# Altium footprint library 底板.PcbLib: 20 footprints (part 1 of 2)
Each footprint in its own frame and in the unit in brackets; x right, y up, seen from the top. Pads: shape width x height; smd on the part's side, far side on the other; paste and mask are expansions set on the pad; w line width, h text height; cw(c..) or ccw(c..) is an arc to the next point about the centre after c.
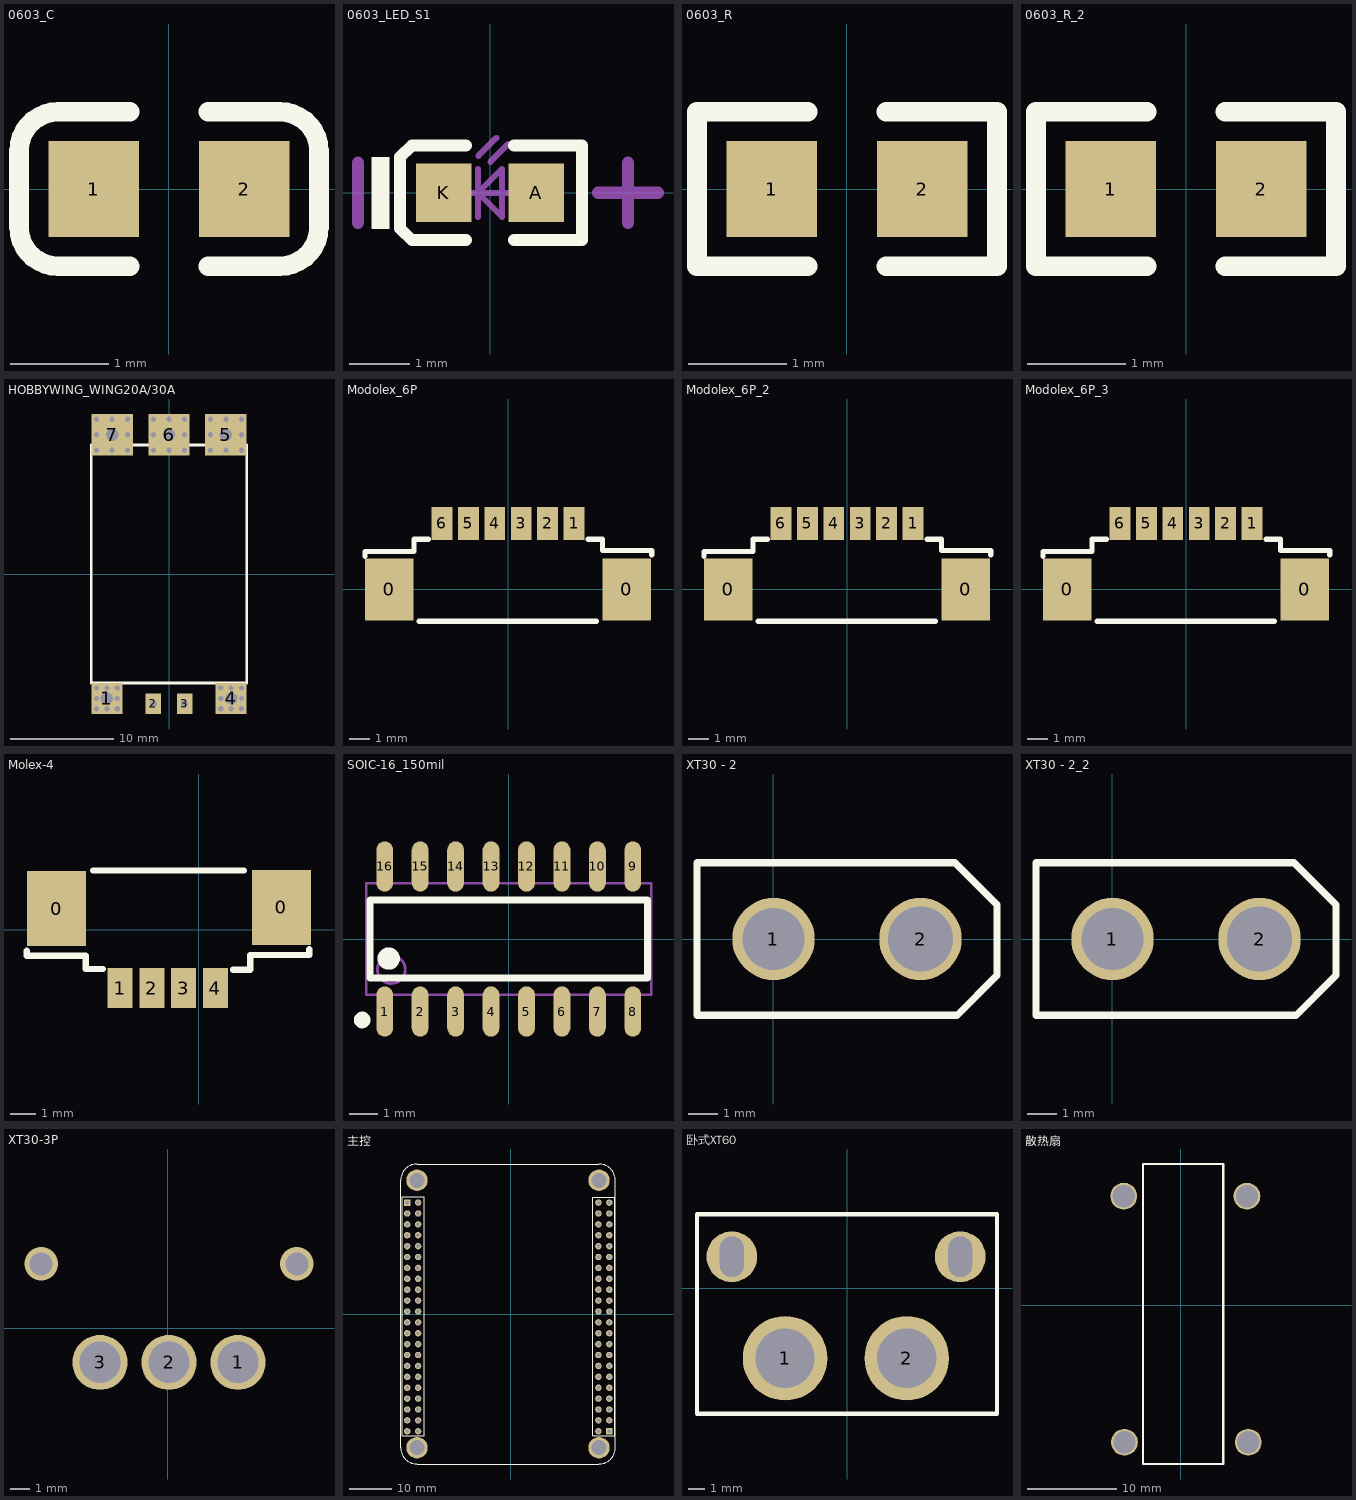
[diagram p0: the footprints below, top view; thin cyan lines are the x and y axes]

## 0603_C [mm]
pads (2):
  rect 0.93x0.98 smd: 1(-0.77,0) 2(0.77,0)
Top Overlay:
  lines w0.2: -0.4,-0.79 -1.135,-0.79 cw(c-1.135,-0.39) -1.535,-0.39 -1.535,0.39 cw(c-1.135,0.39) -1.135,0.79 -0.4,0.79 ; 0.4,-0.79 1.135,-0.79 ccw(c1.135,-0.39) 1.535,-0.39 1.535,0.39 ccw(c1.135,0.39) 1.135,0.79 0.4,0.79
3D body "User Library-0603 SMD Capacitor.STEP": height 0.3, standoff 0, extent -0.8,-0.4 0.8,0.4

## 0603_LED_S1 [mm]
pads (2):
  rect 0.93x0.98 smd: A(0.77,0) K(-0.77,0)
Top Overlay:
  rectangle: -1.975,-0.6 -1.675,0.6
  lines w0.2: -0.4,-0.79 -1.3,-0.79 -1.5,-0.597 -1.5,0.597 -1.3,0.79 -0.4,0.79 ; 0.4,-0.79 1.535,-0.79 1.535,0.79 0.4,0.79
Mechanical 13:
  lines w0.1: -0.4,0 0.4,0 ; -0.2,-0.4 -0.2,0.4 ; -0.195,0.617 0.105,0.917 ; 0.005,0.517 0.305,0.817 ; -0.2,0 0.2,0.4 0.2,-0.4 -0.2,0
Mechanical 15:
  lines w0.203: -2.2,-0.5 -2.2,0.5 ; 1.8,0 2.8,0 ; 2.3,-0.5 2.3,0.5
3D body "User Library-LED_0603_R.STEP": height 0.6, standoff 0, extent -0.8,-0.4 0.8,0.4

## 0603_R [mm]
pads (2):
  rect 0.93x0.98 smd: 1(-0.77,0) 2(0.77,0)
Top Overlay:
  lines w0.2: -0.4,-0.79 -1.535,-0.79 -1.535,0.79 -0.4,0.79 ; 0.4,-0.79 1.535,-0.79 1.535,0.79 0.4,0.79
3D body "User Library-RES_1609-0603.STEP": height 0.56, standoff 0, extent -0.85,-0.4 0.85,0.4

## 0603_R_2 [mm]
pads (2):
  rect 0.93x0.98 smd: 1(-0.77,0) 2(0.77,0)
Top Overlay:
  lines w0.2: -0.4,-0.79 -1.535,-0.79 -1.535,0.79 -0.4,0.79 ; 0.4,-0.79 1.535,-0.79 1.535,0.79 0.4,0.79
3D body "User Library-RES_1609-0603.STEP": height 0.56, standoff 0, extent -0.85,-0.4 0.85,0.4

## HOBBYWING_WING20A/30A [mm]
pads (7):
  rect 3x3 hole 1.2: 1(-6,-12) 4(6,-12)
  rect 1.5x2 hole 0.7 square: 2(-1.5,-12.5) 3(1.5,-12.5)
  rect 4x4 hole 1.2: 5(5.5,13.5) 6(0,13.5) 7(-5.5,13.5)
via 1.5,-12.5 diameter 1 hole 0.5
via -5,-11 diameter 1 hole 0.5
via -5,-12 diameter 1 hole 0.5
via -5,-13 diameter 1 hole 0.5
via -1.5,-12.5 diameter 1 hole 0.5
via -7,13.5 diameter 1 hole 0.5
via -5.5,15 diameter 1 hole 0.5
via -4,13.5 diameter 1 hole 0.5
via -5.5,12 diameter 1 hole 0.5
via -1.5,13.5 diameter 1 hole 0.5
via 0,12 diameter 1 hole 0.5
via 0,15 diameter 1 hole 0.5
via 1.5,13.5 diameter 1 hole 0.5
via 4,15 diameter 1 hole 0.5
via 5.5,15 diameter 1 hole 0.5
via 7,15 diameter 1 hole 0.5
via 7,12 diameter 1 hole 0.5
via 5.5,12 diameter 1 hole 0.5
via 4,12 diameter 1 hole 0.5
via -7,-12 diameter 1 hole 0.5
via -6,-11 diameter 1 hole 0.5
via -7,12 diameter 1 hole 0.5
via -4,12 diameter 1 hole 0.5
via -4,15 diameter 1 hole 0.5
via -7,15 diameter 1 hole 0.5
via 1.5,15 diameter 1 hole 0.5
via 1.5,12 diameter 1 hole 0.5
via -1.5,12 diameter 1 hole 0.5
via -1.5,15 diameter 1 hole 0.5
via 7,13.5 diameter 1 hole 0.5
via 4,13.5 diameter 1 hole 0.5
via 6,-13 diameter 1 hole 0.5
via 5,-13 diameter 1 hole 0.5
via 5,-12 diameter 1 hole 0.5
via 5,-11 diameter 1 hole 0.5
via 6,-11 diameter 1 hole 0.5
via 7,-13 diameter 1 hole 0.5
via 7,-12 diameter 1 hole 0.5
via 7,-11 diameter 1 hole 0.5
via -6,-13 diameter 1 hole 0.5
via -7,-13 diameter 1 hole 0.5
via -7,-11 diameter 1 hole 0.5
Top Overlay:
  lines w0.254: -7.5,-10.5 -7.5,12.5 7.5,12.5 7.5,-10.5 -7.5,-10.5

## Modolex_6P [mm]
pads (8):
  rect 2.35x3 smd: 0(-5.715,0) 0(5.715,0)
  rect 1x1.6 smd: 1(3.175,3.175) 2(1.905,3.175) 3(0.635,3.175) 4(-0.635,3.175) 5(-1.905,3.175) 6(-3.175,3.175)
Top Overlay:
  lines w0.254: -6.883,1.6 -6.883,1.829 -4.521,1.829 -4.521,2.413 -3.835,2.413 ; -4.267,-1.524 4.242,-1.524 ; 3.861,2.413 4.547,2.413 4.547,1.88 6.909,1.88 6.909,1.676

## Modolex_6P_2 [mm]
pads (8):
  rect 2.35x3 smd: 0(-5.715,0) 0(5.715,0)
  rect 1x1.6 smd: 1(3.175,3.175) 2(1.905,3.175) 3(0.635,3.175) 4(-0.635,3.175) 5(-1.905,3.175) 6(-3.175,3.175)
Top Overlay:
  lines w0.254: -6.883,1.6 -6.883,1.829 -4.521,1.829 -4.521,2.413 -3.835,2.413 ; -4.267,-1.524 4.242,-1.524 ; 3.861,2.413 4.547,2.413 4.547,1.88 6.909,1.88 6.909,1.676

## Modolex_6P_3 [mm]
pads (8):
  rect 2.35x3 smd: 0(-5.715,0) 0(5.715,0)
  rect 1x1.6 smd: 1(3.175,3.175) 2(1.905,3.175) 3(0.635,3.175) 4(-0.635,3.175) 5(-1.905,3.175) 6(-3.175,3.175)
Top Overlay:
  lines w0.254: -6.883,1.6 -6.883,1.829 -4.521,1.829 -4.521,2.413 -3.835,2.413 ; -4.267,-1.524 4.242,-1.524 ; 3.861,2.413 4.547,2.413 4.547,1.88 6.909,1.88 6.909,1.676

## Molex-4 [mm]
pads (6):
  rect 2.35x3 smd: 0(-5.687,0.852) 0(3.3,0.901)
  rect 1x1.6 smd: 1(-3.147,-2.323) 2(-1.877,-2.323) 3(-0.607,-2.323) 4(0.663,-2.323)
Top Overlay:
  lines w0.254: -6.881,-0.825 -6.881,-1.028 -4.519,-1.028 -4.519,-1.561 -3.833,-1.561 ; -4.214,2.376 1.799,2.376 ; 1.363,-1.583 2.049,-1.583 2.049,-0.999 4.411,-0.999 4.411,-0.77

## SOIC-16_150mil [mm]
pads (16):
  oval 0.6x1.8 smd: 1(-4.445,-2.6) 2(-3.175,-2.6) 3(-1.905,-2.6) 4(-0.635,-2.6) 5(0.635,-2.6) 6(1.905,-2.6) 7(3.175,-2.6) 8(4.445,-2.6) 9(4.445,2.6) 10(3.175,2.6) 11(1.905,2.6) 12(0.635,2.6) 13(-0.635,2.6) 14(-1.905,2.6) 15(-3.175,2.6) 16(-4.445,2.6)
Top Overlay:
  circle w0.3: c-5.25,-2.9 r0.15
  circle w0.4: c-4.3,-0.7 r0.2
  lines w0.254: -4.975,-1.4 4.975,-1.4 4.975,1.4 -4.975,1.4 -4.975,-1.4
Mechanical 13:
  circle w0.1: c-4.205,-1.095 r0.5
  lines w0.1: -5.105,-1.995 5.105,-1.995 5.105,1.995 -5.105,1.995 -5.105,-1.995
3D body "SOIC16P127_990X600X175L60X40.STEP": height 1.75, standoff 0, extent -4.95,-2.97 4.95,3.03

## XT30 - 2 [mm]
pads (2):
  round 2.8 hole 2.1: 1(0,0)
  round 2.8 hole 2.2: 2(5,0)
Top Overlay:
  lines w0.254: -2.6,-2.6 -2.6,2.6 6.163,2.6 7.6,1.163 7.6,-1.239 6.239,-2.6 -2.6,-2.6

## XT30 - 2_2 [mm]
pads (2):
  round 2.8 hole 2.1: 1(0,0)
  round 2.8 hole 2.2: 2(5,0)
Top Overlay:
  lines w0.254: -2.6,-2.6 6.239,-2.6 7.6,-1.239 7.6,1.163 6.163,2.6 -2.6,2.6 -2.6,-2.6

## XT30-3P [mm]
pads (3):
  round 2.8 hole 2.1: 1(3.581,-1.727) 2(0.076,-1.727) 3(-3.429,-1.727)
via -6.424,3.273 diameter 1.7 hole 1.15
via 6.576,3.273 diameter 1.7 hole 1.15
Bottom Overlay:
  lines w0.254: -7.544,0.686 -7.544,5.258 -7.544,5.639 7.696,5.639 7.696,5.258 7.696,0.723 3.581,0.723 cw(c3.581,-1.727) 3.581,-4.177 -3.429,-4.177 cw(c-3.429,-1.727) -3.429,0.723 -7.507,0.723 ; 1.803,0.686 1.829,-3.251 1.829,-4.177

## 主控 [mm]
pads (92):
  round 1.5 hole 0.9: 1(-24.105,-4.445) 1(-24.105,0.635) 1(-24.105,15.875) 1(-21.565,-4.445) 1(-21.565,0.635) 1(-21.565,15.875) 1(-21.565,26.035) 2(-24.105,23.495) 3(-21.565,23.495) 4(-24.105,20.955) 5(-21.565,20.955) 6(-24.105,-1.905) 6(-24.105,10.795) 6(-21.565,-1.905) 6(-21.565,10.795) 6(20.498,26.035) 6(23.038,26.035) 7(-24.105,8.255) 8(-24.105,-6.985) 9(-21.565,-6.985) 10(-21.565,8.255) 11(-24.105,5.715) 12(-24.105,-9.525) 13(-21.565,-9.525) 14(-21.565,5.715) 15(-24.105,-14.605) 16(-21.565,-14.605) 17(-21.565,-17.145) 18(20.498,23.495) 19(23.038,23.495) 20(20.498,-1.905) 20(20.498,0.635) 20(23.038,-1.905) 20(23.038,0.635) 21(20.498,-6.985) 21(20.498,-4.445) 21(23.038,-6.985) 21(23.038,-4.445) 22(20.498,-12.065) 22(20.498,-9.525) 22(23.038,-12.065) 22(23.038,-9.525) 23(20.498,-17.145) 23(20.498,-14.605) 23(23.038,-17.145) 23(23.038,-14.605) 24(20.498,-22.225) 24(20.498,-19.685) 24(23.038,-22.225) 24(23.038,-19.685) 25(20.498,-27.305) 25(20.498,-24.765) 25(23.038,-24.765) 26(-24.105,-17.145) 26(-24.105,-12.065) 26(-24.105,3.175) 26(-24.105,13.335) 26(-24.105,18.415) 26(-21.565,-12.065) 26(-21.565,3.175) 26(-21.565,13.335) 26(-21.565,18.415) 26(20.498,20.955) 26(23.038,20.955) " "(-24.105,-19.685) ""(-24.105,-27.305) ""(-24.105,-24.765) ""(-24.105,-22.225) ""(-21.565,-27.305) ""(-21.565,-24.765) ""(-21.565,-22.225) ""(-21.565,-19.685) ""(20.498,3.175) ""(20.498,5.715) ""(20.498,8.255) ""(20.498,10.795) ""(20.498,13.335) ""(20.498,15.875) ""(20.498,18.415) ""(23.038,3.175) ""(23.038,5.715) ""(23.038,8.255) ""(23.038,10.795) ""(23.038,13.335) ""(23.038,15.875) ""(23.038,18.415)
  rect 1.5x1.5 hole 0.9: 1(-24.105,26.035) 25(23.038,-27.305)
  round 5 hole 3.5: ""(-21.819,-31.144) ""(-21.819,31.236) ""(20.631,-31.144) ""(20.631,31.236)
Top Overlay:
  circle w0.013: c-21.819,-31.144 r1.6
  circle w0.013: c20.631,-31.144 r1.6
  circle w0.013: c20.631,31.236 r1.6
  circle w0.013: c-21.819,31.236 r1.6
  lines w0.013: -25.619,-31.144 ccw(c-21.819,-31.144) -21.819,-34.944 20.631,-34.944 ccw(c20.631,-31.144) 24.431,-31.144 24.431,31.236 ccw(c20.631,31.236) 20.631,35.036 -21.819,35.036 ccw(c-21.819,31.236) -25.619,31.236 -25.619,-31.144
  lines w0.2: -25.223,-28.33 -25.223,27.445 -20.143,27.445 -20.143,-28.33 ; 19.228,-28.296 19.228,27.305 24.308,27.305 24.308,-28.296 19.228,-28.296
  lines w0.254: -25.223,-28.33 -20.143,-28.33
Top Solder:
  circle w0.254: c20.498,-17.145 r0.742

## 卧式XT60 [mm]
pads (4):
  round 5 hole 3.5: 1(-3.683,-4.14)
  round 5 hole 3.53: 2(3.505,-4.14)
  round 3 hole 2.4 slot 1.4 at 0 deg: ""(-6.833,1.86) ""(6.667,1.86)
Top Overlay:
  lines w0.254: -8.89,-7.417 -8.89,4.369 8.839,4.369 8.839,-7.417 -8.89,-7.417

## 散热扇 [mm]
pads (4):
  round 3 hole 2.5: ""(-6.375,12.243) ""(-6.299,-15.367) ""(7.442,12.243) ""(7.595,-15.367)
Top Overlay:
  lines w0.254: -2.819,15.85 4.801,15.85 4.801,-17.805 -4.216,-17.805 -4.216,15.85 -2.565,15.85